# EAGLE library part ADXRS810 (library gyroscope)
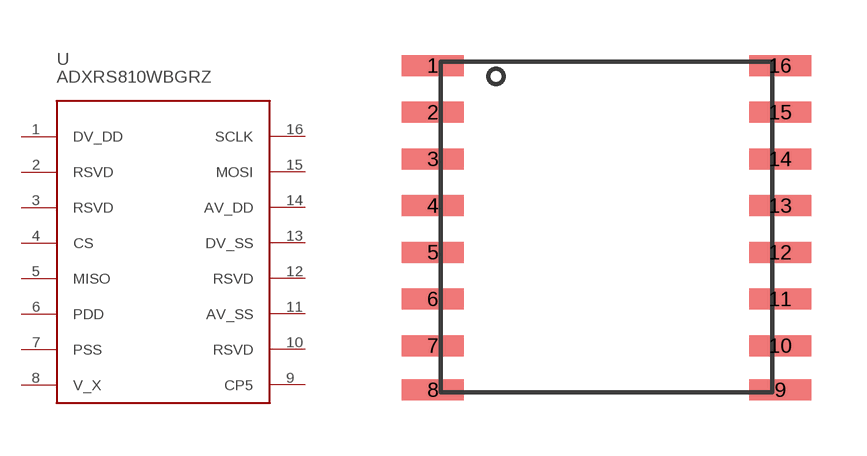
[diagram p0: symbol with the pads of SOIC-16; footprint SOIC-16]

Designator prefix -

## ADXRS810  [SOIC-16]
1  DV_DD
2  RSVD
3  RSVD
4  CS
5  MISO
6  PDD
7  PSS
8  V_X
9  CP5
10  RSVD
11  AV_SS
12  RSVD
13  DV_SS
14  AV_DD
15  MOSI
16  SCLK

## Footprint SOIC-16 (pad centres in mm)
smd 1.691 x 0.572: 1 -4.72,4.39; 2 -4.72,3.12; 3 -4.72,1.85; 4 -4.72,0.58; 5 -4.72,-0.69; 6 -4.72,-1.96; 7 -4.72,-3.23; 8 -4.72,-4.43; 9 4.72,-4.43; 10 4.72,-3.23; 11 4.72,-1.96; 12 4.72,-0.69; 13 4.72,0.58; 14 4.72,1.85; 15 4.72,3.12; 16 4.72,4.39